# Altium footprint library 监测站_PCBLIB.PcbLib: 30 footprints (part 1 of 2)
Each footprint in its own frame and in the unit in brackets; x right, y up, seen from the top. Pads: shape width x height; smd on the part's side, far side on the other; paste and mask are expansions set on the pad; w line width, h text height; cw(c..) or ccw(c..) is an arc to the next point about the centre after c.
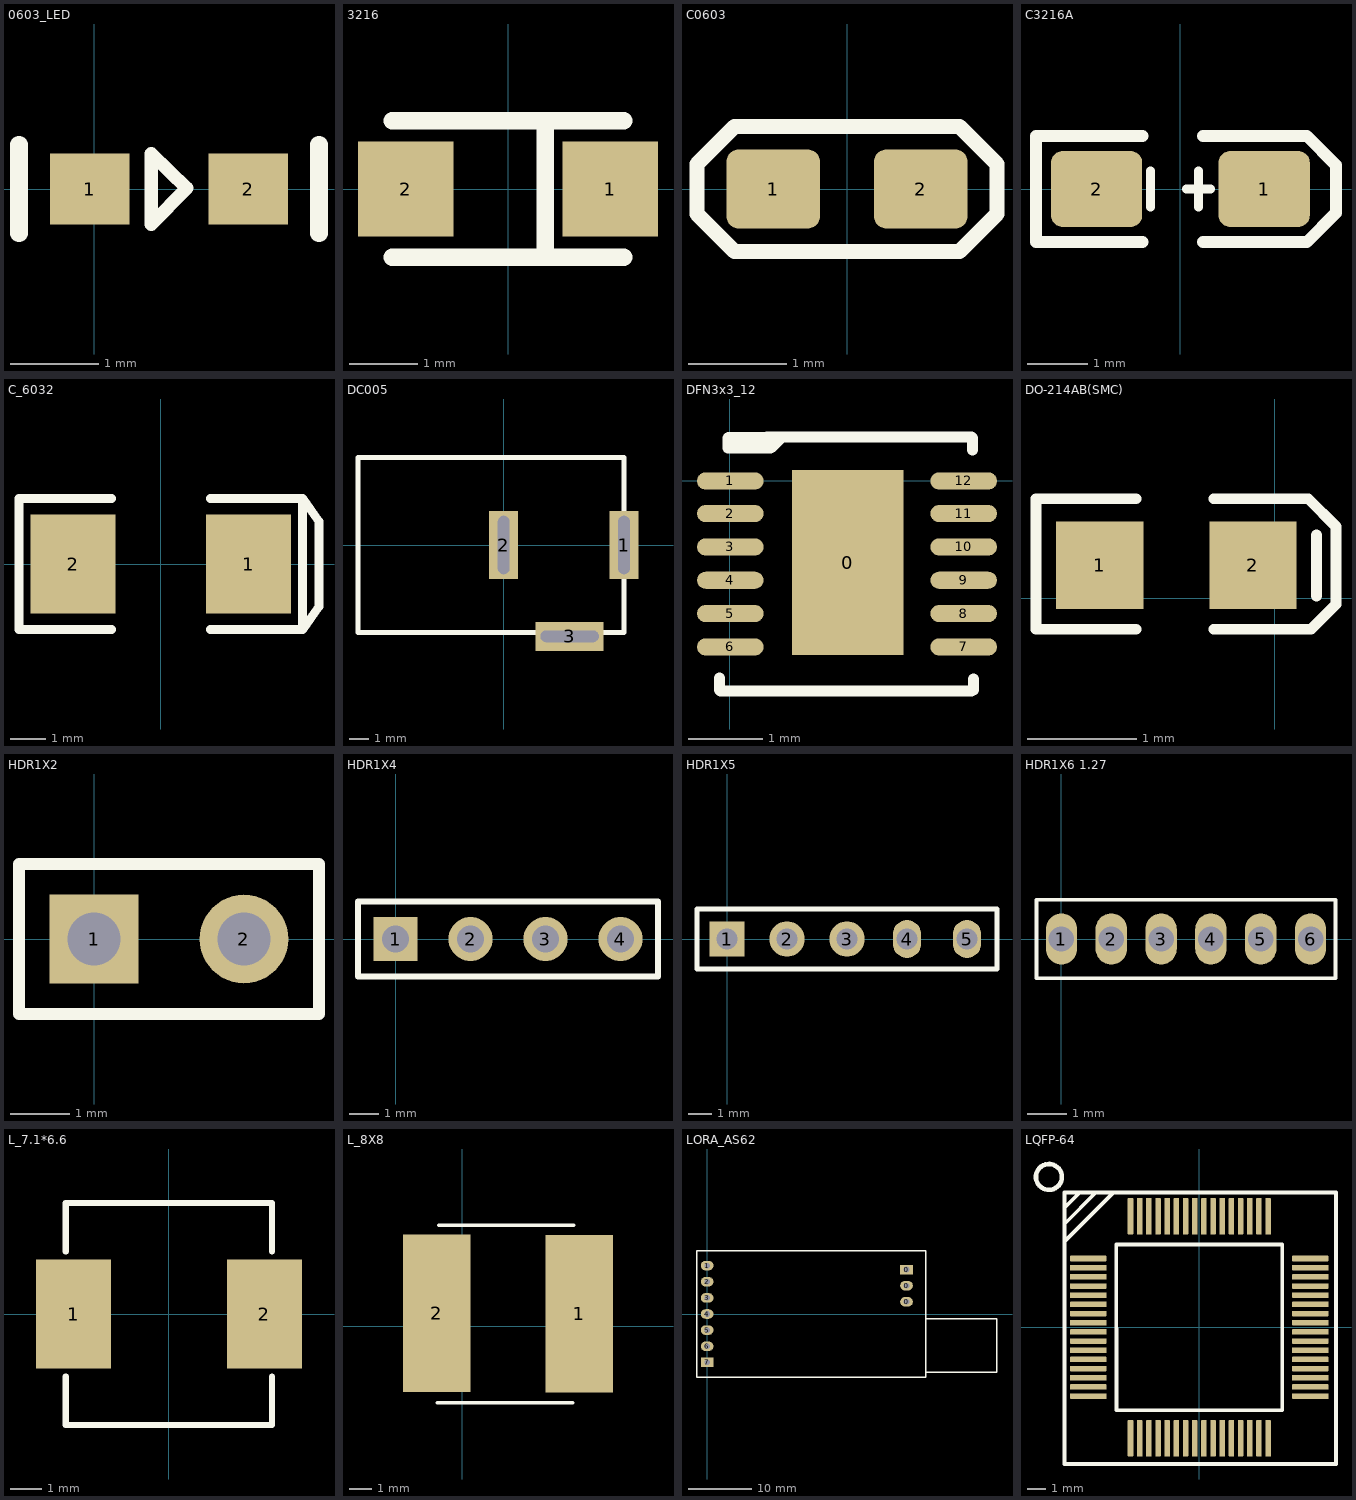
[diagram p0: the footprints below, top view; thin cyan lines are the x and y axes]

## 0603_LED [mm]
pads (2):
  rect 0.9x0.8 smd: 1(-0.05,0) 2(1.75,0)
Top Overlay:
  lines w0.15: 0.65,-0.4 0.65,0.4 1.05,0.01 0.65,-0.4
  lines w0.2: -0.85,-0.5 -0.85,0.5 ; 2.55,-0.5 2.55,0.5

## 3216 [mm]
pads (2):
  rect 1.4x1.4 smd: 1(1.5,0) 2(-1.5,0)
Top Overlay:
  lines w0.254: -1.7,-1 1.7,-1 ; -1.7,1 1.7,1 ; 0.547,-1 0.547,1

## C0603 [mm]
pads (2):
  rrect30% 0.95x0.8 smd: 1(-0.75,0) 2(0.75,0)
Top Overlay:
  lines w0.152: -1.524,-0.254 -1.524,0.254 -1.143,0.635 1.143,0.635 1.524,0.254 1.524,-0.254 1.143,-0.635 -1.143,-0.635 -1.524,-0.254
3D body: height 0.8, standoff 0.1, extent -0.813,-0.406 0.813,0.406

## C3216A [mm]
pads (2):
  rrect30% 1.524x1.27 smd: 1(1.4,0) 2(-1.4,0)
Top Overlay:
  lines w0.15: -0.5,-0.3 -0.5,0.3 ; 0.1,0 0.5,0 ; 0.3,-0.3 0.3,0.3
  lines w0.2: -0.635,-0.889 -2.413,-0.889 -2.413,0.889 -0.635,0.889 ; 0.381,-0.889 2.111,-0.889 2.6,-0.4 2.6,0.3 2.6,0.4 2.111,0.889 0.381,0.889 ; 1.8,0.889 2.011,0.889
3D body: height 1.6, standoff 0.1, extent -1.6,-0.838 1.6,0.838

## C_6032 [mm]
pads (2):
  rect 2.4x2.8 smd: 1(2.48,0) 2(-2.48,0)
Top Overlay:
  lines w0.254: -1.4,-1.85 -4.007,-1.85 -4.007,1.85 -1.4,1.85 ; 1.4,-1.85 4.007,-1.85 ; 1.4,1.85 4.007,1.85 ; 4.007,-1.85 4.47,-1.2 4.47,1.2 4.007,1.85 ; 4.007,-1.85 4.007,1.85
3D body: height 2.7, standoff 0, extent -3.05,-1.675 3.05,1.675

## DC005 [mm]
height 11
pads (3):
  rect 1.5x3.5 hole 0.6 slot 3 at 90 deg: 1(6.2,0) 2(0,0)
  rect 3.5x1.5 hole 0.6 slot 3 at 0 deg: 3(3.4,-4.7)
Top Overlay:
  lines w0.254: -7.5,-4.5 -7.5,4.5 6.2,4.5 6.2,-4.5 -7.5,-4.5

## DFN3x3_12 [mm]
pads (13):
  rect 1.5x2.5 smd: 0(1.591,-1.105)
  oval 0.9x0.23 smd: 1(0.006,-0.004) 2(0.006,-0.444) 3(0.006,-0.894) 4(0.006,-1.344) 5(0.006,-1.794) 6(0.006,-2.244) 7(3.156,-2.244) 8(3.156,-1.794) 9(3.156,-1.344) 10(3.156,-0.894) 11(3.156,-0.444) 12(3.156,-0.004)
Top Overlay:
  lines w0.15: -0.138,-2.668 -0.138,-2.826 -0.126,-2.838 3.264,-2.838 ; -0.025,0.443 0.195,0.443 ; -0.025,0.463 -0.025,0.573 ; -0.015,0.583 0.205,0.583 ; -0.005,0.573 0.215,0.573 ; 0.065,0.443 0.285,0.443 ; 0.065,0.583 0.285,0.583 ; 0.125,0.463 0.125,0.573 ; 0.165,0.453 0.165,0.563 ; 0.5,0.588 2.964,0.588 ; 0.505,0.583 0.285,0.583 ; 0.545,0.443 0.275,0.443 0.265,0.453 0.265,0.563 0.285,0.583 ; 0.56,0.448 0.7,0.588 ; 0.79,0.588 3.264,0.588 3.276,0.576 3.276,0.418 ; 3.288,-2.826 3.288,-2.68

## DO-214AB(SMC) [mm]
pads (2):
  rect 0.8x0.8 smd: 1(-1.6,0.3) 2(-0.2,0.3)
Top Overlay:
  lines w0.1: -1.27,-0.284 -2.184,-0.284 -2.184,0.91 -1.27,0.91 ; -0.559,-0.284 0.33,-0.284 0.559,-0.056 0.559,0.656 0.305,0.91 -0.559,0.91 ; 0.381,0.021 0.381,0.579
3D body: height 0.7, standoff 0, extent -1.739,-0.132 -0.039,0.768

## HDR1X2 [mm]
pads (2):
  rect 1.5x1.5 hole 0.9: 1(0,0)
  round 1.5 hole 0.9: 2(2.54,0)
Top Overlay:
  lines w0.2: -1.27,-1.27 -1.27,1.27 3.81,1.27 3.81,-1.27 -1.27,-1.27

## HDR1X4 [mm] "Connector; Header; 4 Position"
pads (4):
  rect 1.5x1.5 hole 0.9: 1(0,0)
  round 1.5 hole 0.9: 2(2.54,0) 3(5.08,0) 4(7.62,0)
Top Overlay:
  lines w0.2: -1.27,-1.27 8.89,-1.27 8.89,1.27 -1.27,1.27 -1.27,-1.27

## HDR1X5 [mm] "Connector; Header; 5 Position"
pads (5):
  rect 1.5x1.5 hole 0.9: 1(0,0)
  round 1.5 hole 0.9: 2(2.54,0) 3(5.08,0)
  oval 1.2x1.6 hole 0.9: 4(7.62,0) 5(10.16,0)
Top Overlay:
  lines w0.2: -1.27,-1.27 11.43,-1.27 11.43,1.27 -1.27,1.27 -1.27,-1.27

## HDR1X6 1.27 [mm]
pads (6):
  oval 0.8x1.3 hole 0.65: 1(0,0) 2(1.27,0) 3(2.54,0) 4(3.81,0) 5(5.08,0) 6(6.35,0)
Top Overlay:
  lines w0.1: -0.64,-1 -0.64,1 6.99,1 6.99,-1 -0.64,-1

## L_7.1*6.6 [mm]
pads (2):
  rect 2.4x3.5 smd: 1(-3.05,0) 2(3.05,0)
Top Overlay:
  lines w0.2: -3.3,-2 -3.3,-3.55 3.3,-3.55 3.3,-2 ; -3.3,2 -3.3,3.55 3.3,3.55 3.3,2

## L_8X8 [mm]
pads (2):
  rect 3x7 smd: 1(5.212,0.565) 2(-1.14,0.579)
Top Overlay:
  lines w0.15: -1.121,-3.402 4.911,-3.402 ; -1.059,4.5 4.974,4.5

## LORA_AS62 [mm]
height 13.5
pads (10):
  oval 2x1.5 hole 0.9: 0(31.4,1.92) 0(31.4,4.46) 1(0,7.62) 2(0,5.08) 3(0,2.54) 4(0,0) 5(0,-2.54) 6(0,-5.08)
  rect 2x1.5 hole 0.9: 0(31.4,7) 7(0,-7.62)
Top Overlay:
  lines w0.15: 34.425,-9.2 34.425,-0.75
  lines w0.2: 34.4,-9.2 45.65,-9.2 45.65,-0.75 34.4,-0.75 ; -1.6,-10 -1.6,10 34.4,10 34.4,-10 -1.6,-10

## LQFP-64 [mm]
pads (64):
  rrect30% 2x0.3 smd: 1(-6.05,3.75) 2(-6.05,3.25) 3(-6.05,2.75) 4(-6.05,2.25) 5(-6.05,1.75) 6(-6.05,1.25) 7(-6.05,0.75) 8(-6.05,0.25) 9(-6.05,-0.25) 10(-6.05,-0.75) 11(-6.05,-1.25) 12(-6.05,-1.75) 13(-6.05,-2.25) 14(-6.05,-2.75) 15(-6.05,-3.25) 16(-6.05,-3.75) 33(6.05,-3.75) 34(6.05,-3.25) 35(6.05,-2.75) 36(6.05,-2.25) 37(6.05,-1.75) 38(6.05,-1.25) 39(6.05,-0.75) 40(6.05,-0.25) 41(6.05,0.25) 42(6.05,0.75) 43(6.05,1.25) 44(6.05,1.75) 45(6.05,2.25) 46(6.05,2.75) 47(6.05,3.25) 48(6.05,3.75)
  rrect30% 0.3x2 smd: 17(-3.75,-6.05) 18(-3.25,-6.05) 19(-2.75,-6.05) 20(-2.25,-6.05) 21(-1.75,-6.05) 22(-1.25,-6.05) 23(-0.75,-6.05) 24(-0.25,-6.05) 25(0.25,-6.05) 26(0.75,-6.05) 27(1.25,-6.05) 28(1.75,-6.05) 29(2.25,-6.05) 30(2.75,-6.05) 31(3.25,-6.05) 32(3.75,-6.05) 49(3.75,6.05) 50(3.25,6.05) 51(2.75,6.05) 52(2.25,6.05) 53(1.75,6.05) 54(1.25,6.05) 55(0.75,6.05) 56(0.25,6.05) 57(-0.25,6.05) 58(-0.75,6.05) 59(-1.25,6.05) 60(-1.75,6.05) 61(-2.25,6.05) 62(-2.75,6.05) 63(-3.25,6.05) 64(-3.75,6.05)
Top Overlay:
  circle w0.254: c-8.195,8.195 r0.705
  lines w0.2: -7.35,4.67 -4.67,7.35 ; -7.35,6.52 -6.53,7.34 ; -7.34,5.65 -5.64,7.35 ; -7.35,-7.45 7.45,-7.45 7.45,7.35 -7.35,7.35 -7.35,-7.45 ; -4.52,4.515 -4.515,-4.515 4.515,-4.515 4.515,4.515 -4.52,4.515